# Altium footprint library WRA2415-20W.PcbLib: 1 footprints
Each footprint in its own frame and in the unit in brackets; x right, y up, seen from the top. Pads: shape width x height; smd on the part's side, far side on the other; paste and mask are expansions set on the pad; w line width, h text height; cw(c..) or ccw(c..) is an arc to the next point about the centre after c.
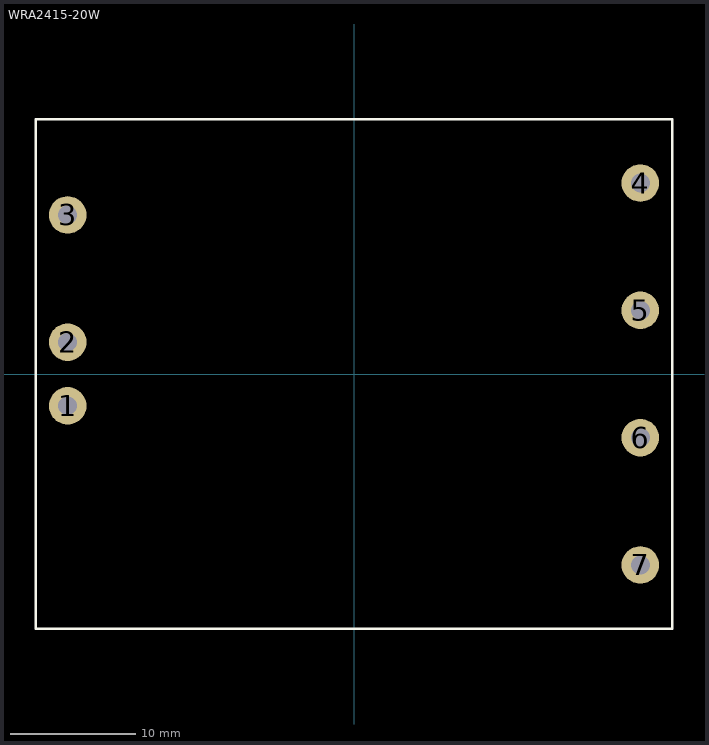
[diagram p0: the footprint, top view; thin cyan lines are the x and y axes]

## WRA2415-20W [mm]
pads (7):
  round 3 hole 1.5: 1(-22.86,-2.54) 2(-22.86,2.54) 3(-22.86,12.7) 4(22.86,15.24) 5(22.86,5.08) 6(22.86,-5.08) 7(22.86,-15.24)
Top Overlay:
  lines w0.2: -25.4,-20.32 25.4,-20.32 25.4,20.32 -25.4,20.32 -25.4,-20.32
3D body: height 10.5, standoff 0, extent -25.4,-20.3 25.4,20.3